# EAGLE library part 38720-6210 (library con-molex)
BEAU Terminal Block 72 R Series
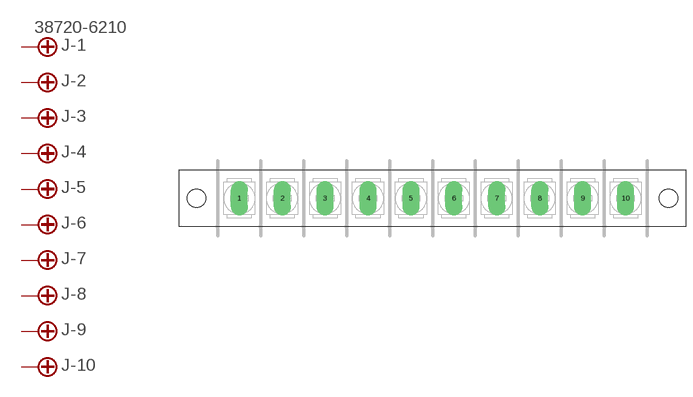
[diagram p129: symbol with the pads of 38720-6210; footprint 38720-6210]

Designator prefix J; gates -1=STV -2=ST -3=ST -4=ST -5=ST -6=ST -7=ST -8=ST -9=ST -10=ST

## 38720-6210  [38720-6210]
1  -1:S  pas
2  -2:S  pas
3  -3:S  pas
4  -4:S  pas
5  -5:S  pas
6  -6:S  pas
7  -7:S  pas
8  -8:S  pas
9  -9:S  pas
10  -10:S  pas

## Footprint 38720-6210 (pad centres in mm)
BEAU Terminal Block 72 R Series - 0.375" pitch
drill 1.778 pad 3.81 long: 1 -38.1,0; 2 -28.575,0; 3 -19.05,0; 4 -9.525,0; 5 0,0; 6 9.525,0; 7 19.05,0; 8 28.575,0; 9 38.1,0; 10 47.625,0
hole 4.064 at -47.625,0
hole 4.064 at 57.15,0